# EAGLE library part ATMEGA32U2 (library dan-atmel)
Atmel ATmega32U2
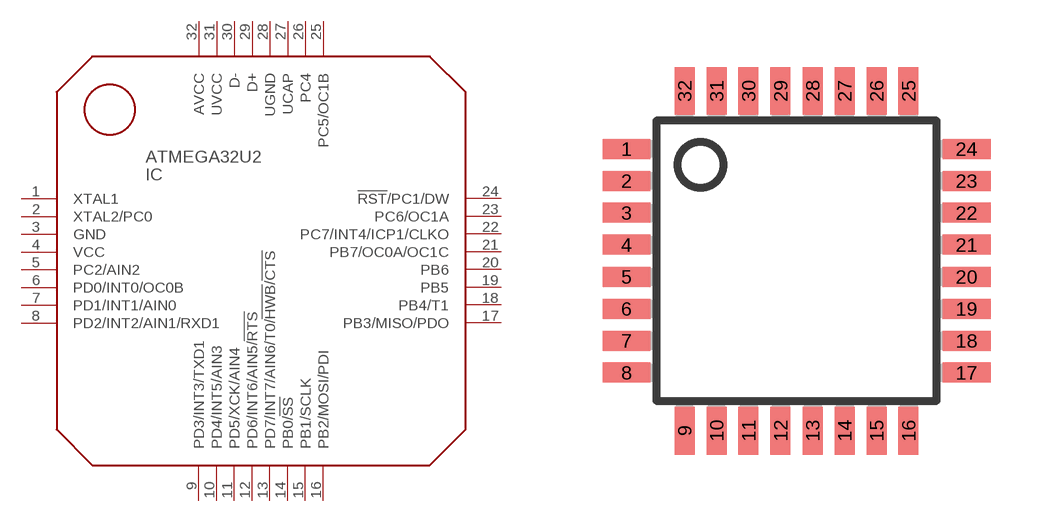
[diagram p1: symbol with the pads of TQFP32; footprint TQFP32]

Designator prefix IC

## ATMEGA32U2-AU  [TQFP32]
1  XTAL1  pas
2  XTAL2/PC0
3  GND  pas
4  VCC  pas
5  PC2/AIN2
6  PD0/INT0/OC0B
7  PD1/INT1/AIN0
8  PD2/INT2/AIN1/RXD1
9  PD3/INT3/TXD1
10  PD4/INT5/AIN3
11  PD5/XCK/AIN4
12  PD6/INT6/AIN5/!RTS
13  PD7/INT7/AIN6/T0/!HWB!/!CTS
14  PB0/!SS
15  PB1/SCLK
16  PB2/MOSI/PDI
17  PB3/MISO/PDO
18  PB4/T1
19  PB5
20  PB6
21  PB7/OC0A/OC1C
22  PC7/INT4/ICP1/CLKO
23  PC6/OC1A
24  !RST!/PC1/DW
25  PC5/OC1B
26  PC4
27  UCAP  pas
28  UGND  pas
29  D+
30  D-
31  UVCC  pas
32  AVCC  pas

## Footprint TQFP32 (pad centres in mm)
TQFP32 0.8mm pitch; from ATMEGA168 datasheet: http://www.atmel.com/dyn/resources/prod_documents/8271S.pdf
smd 1.2 x 0.5: 1 -4.25,2.8; 2 -4.25,2; 3 -4.25,1.2; 4 -4.25,0.4; 5 -4.25,-0.4; 6 -4.25,-1.2; 7 -4.25,-2; 8 -4.25,-2.8; 17 4.25,-2.8; 18 4.25,-2; 19 4.25,-1.2; 20 4.25,-0.4; 21 4.25,0.4; 22 4.25,1.2; 23 4.25,2; 24 4.25,2.8
smd 0.5 x 1.2: 9 -2.8,-4.25; 10 -2,-4.25; 11 -1.2,-4.25; 12 -0.4,-4.25; 13 0.4,-4.25; 14 1.2,-4.25; 15 2,-4.25; 16 2.8,-4.25; 25 2.8,4.25; 26 2,4.25; 27 1.2,4.25; 28 0.4,4.25; 29 -0.4,4.25; 30 -1.2,4.25; 31 -2,4.25; 32 -2.8,4.25